# Altium integrated library Abracon.IntLib: 1 symbol
Pins are listed as number, name and electrical type; pins without a type are passive.

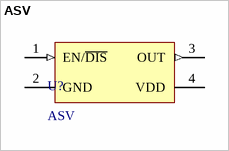
[diagram p0: symbol ASV]

## ASV
designator U?
3.3Vdc HCMOS SMD Crystal Clock Oscillator
footprint ASV
pins: 1 EN/~{DIS} (in), 2 GND (power), 3 OUT (out), 4 VDD (power)